# EAGLE library part B7971 (library mynixies)
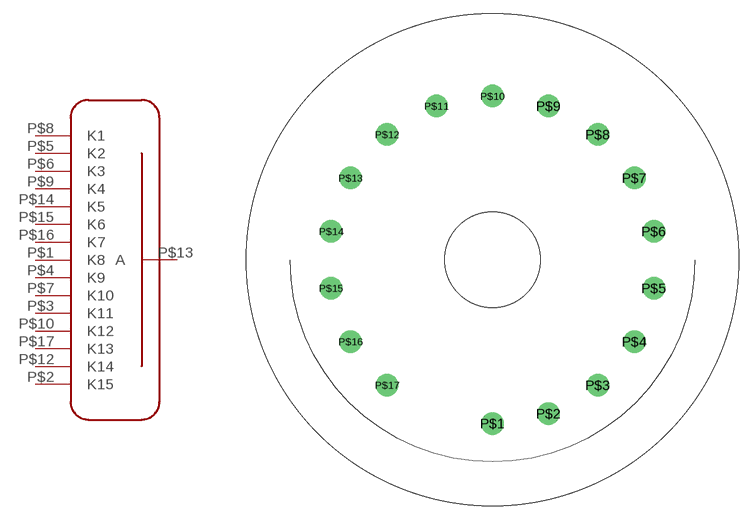
[diagram p12: symbol with the pads of RTS-5-DSUB-ALLPINS; footprint RTS-5-DSUB-ALLPINS]

Designator prefix NX

## B7971  [RTS-5-DSUB-ALLPINS]
P$1  K8  pas
P$2  K15  pas
P$3  K11  pas
P$4  K9  pas
P$5  K2  pas
P$6  K3  pas
P$7  K10  pas
P$8  K1  pas
P$9  K4  pas
P$10  K12  pas
P$12  K14  pas
P$13  A  pas
P$14  K5  pas
P$15  K6  pas
P$16  K7  pas
P$17  K13  pas

## Footprint RTS-5-DSUB-ALLPINS (pad centres in mm)
drill 1.6: P$1 0,-17.462; P$2 5.973,-16.409; P$3 11.225,-13.377; P$4 15.123,-8.731; P$5 17.197,-3.032; P$6 17.197,3.032; P$7 15.123,8.731; P$8 11.225,13.377; P$9 5.973,16.409; P$10 0,17.462; P$11 -5.973,16.409; P$12 -11.225,13.377; P$13 -15.123,8.731; P$14 -17.197,3.032; P$15 -17.197,-3.032; P$16 -15.123,-8.731; P$17 -11.225,-13.377
hole 10.16 at 0,0